# Altium footprint library Tranzistor.PcbLib: 240 footprints (part 14 of 15)
Each footprint in its own frame and in the unit in brackets; x right, y up, seen from the top. Pads: shape width x height; smd on the part's side, far side on the other; paste and mask are expansions set on the pad; w line width, h text height; cw(c..) or ccw(c..) is an arc to the next point about the centre after c.
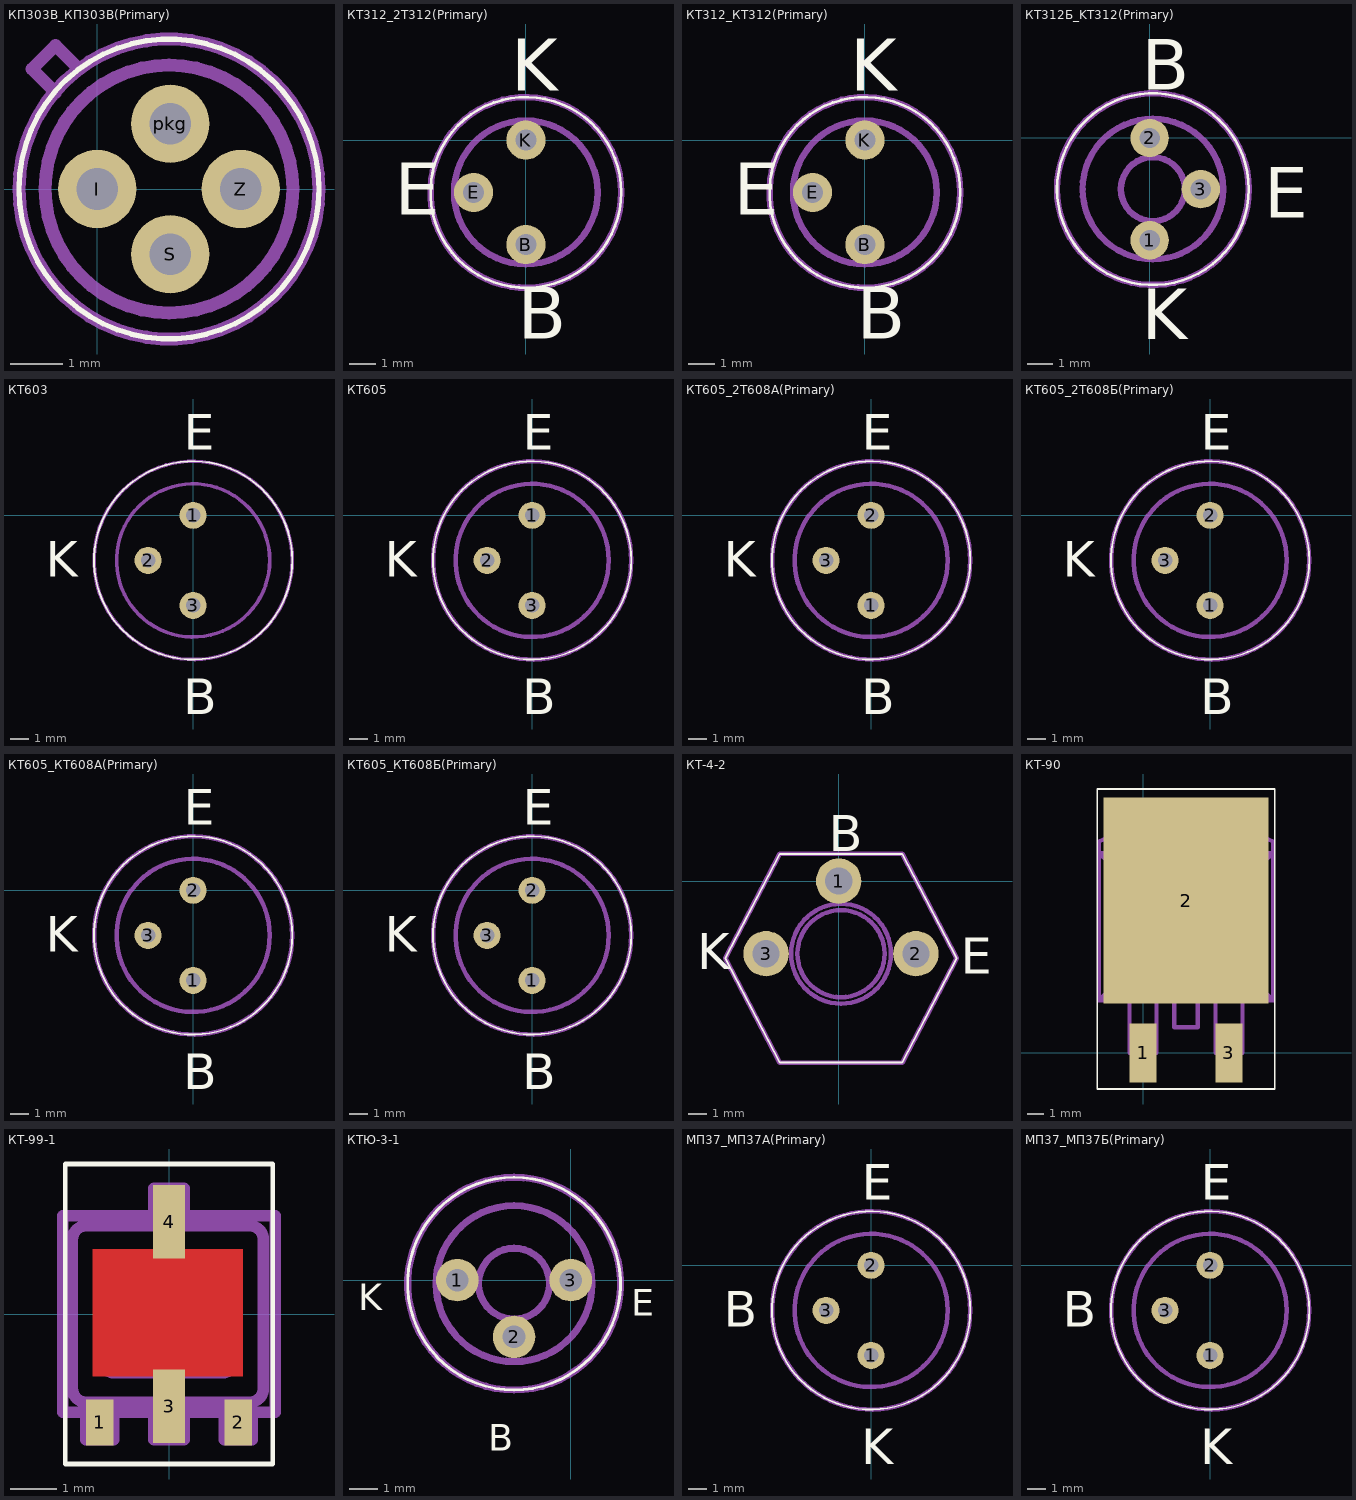
[diagram p13: the footprints below, top view; thin cyan lines are the x and y axes]

## КП303В_КП303В(Primary) [mm]
pads (4):
  round 1.5 hole 0.8: I(0,0) pkg(1.4,1.25) S(1.4,-1.25) Z(2.75,0)
Top Overlay:
  lines w0.1: -1.5,0 cw(c1.375,0) 4.25,0 cw(c1.375,0) -1.5,0
Mechanical 1:
  lines w0.25: -0.8,1.85 -1.25,2.3 -0.8,2.75 -0.35,2.3 ; -1.5,0 cw(c1.375,0) 4.25,0 cw(c1.375,0) -1.5,0 ; -1,0 cw(c1.375,0) 3.75,0 cw(c1.375,0) -1,0

## КТ312_2Т312(Primary) [mm]
pads (3):
  round 1.5 hole 0.8: B(0,-4) E(-2,-2) K(0,0)
Top Overlay:
  circle w0.1: c0,-2 r3.65
  text "K" at -0.558,1.887 h1.98
  text "B" at -0.308,-7.612 h1.98
  text "E" at -5.017,-2.863 h1.98
Mechanical 1:
  circle w0.25: c0,-2 r3.65
  circle w0.25: c0,-2 r2.75

## КТ312_КТ312(Primary) [mm]
pads (3):
  round 1.5 hole 0.8: B(0,-4) E(-2,-2) K(0,0)
Top Overlay:
  circle w0.1: c0,-2 r3.65
  text "K" at -0.558,1.887 h1.98
  text "B" at -0.308,-7.612 h1.98
  text "E" at -5.017,-2.863 h1.98
Mechanical 1:
  circle w0.25: c0,-2 r3.65
  circle w0.25: c0,-2 r2.75

## КТ312Б_KT312(Primary) [mm]
pads (3):
  round 1.5 hole 0.8: 1(0,-4) 2(0,0) 3(2,-2)
Top Overlay:
  lines w0.1: -3.625,-2 ccw(c0.125,-2) 3.875,-2 ccw(c0.125,-2) -3.625,-2
  text "B" at -0.308,1.887 h1.98
  text "K" at -0.308,-7.863 h1.98
  text "E" at 4.483,-3.113 h1.98
Mechanical 1:
  lines w0.25: -3.625,-2 ccw(c0.125,-2) 3.875,-2 ccw(c0.125,-2) -3.625,-2 ; -2.625,-2 ccw(c0.125,-2) 2.875,-2 ccw(c0.125,-2) -2.625,-2 ; -1.125,-2 ccw(c0.125,-2) 1.375,-2 ccw(c0.125,-2) -1.125,-2

## КТ603 [mm]
pads (3):
  round 1.5 hole 0.8: 1(0,0) 2(-2.5,-2.5) 3(0,-5)
Top Overlay:
  circle w0.1: c0,-2.5 r5.5
  text "E" at -0.517,3.638 h1.98
  text "B" at -0.558,-11.023 h1.98
  text "K" at -8.178,-3.403 h1.98
Mechanical 1:
  circle w0.2: c0,-2.5 r4.25
  circle w0.2: c0,-2.5 r5.5
  text "E" at -0.517,3.638 h1.98
  text "B" at -0.558,-11.023 h1.98
  text "K" at -8.178,-3.403 h1.98

## КТ605 [mm]
pads (3):
  round 1.5 hole 0.8: 1(0,0) 2(-2.5,-2.5) 3(0,-5)
Top Overlay:
  circle w0.1: c0,-2.5 r5.5
  text "E" at -0.517,3.638 h1.98
  text "B" at -0.558,-11.023 h1.98
  text "K" at -8.178,-3.403 h1.98
Mechanical 1:
  circle w0.25: c0,-2.5 r4.25
  circle w0.25: c0,-2.5 r5.5
  text "E" at -0.517,3.638 h1.98
  text "B" at -0.558,-11.023 h1.98
  text "K" at -8.178,-3.403 h1.98

## КТ605_2Т608А(Primary) [mm]
pads (3):
  round 1.5 hole 0.8: 1(0,-5) 2(0,0) 3(-2.5,-2.5)
Top Overlay:
  circle w0.1: c0,-2.5 r5.5
  text "E" at -0.517,3.638 h1.98
  text "B" at -0.558,-11.023 h1.98
  text "K" at -8.178,-3.403 h1.98
Mechanical 1:
  circle w0.25: c0,-2.5 r4.25
  circle w0.25: c0,-2.5 r5.5
  text "E" at -0.517,3.638 h1.98
  text "B" at -0.558,-11.023 h1.98
  text "K" at -8.178,-3.403 h1.98

## КТ605_2Т608Б(Primary) [mm]
pads (3):
  round 1.5 hole 0.8: 1(0,-5) 2(0,0) 3(-2.5,-2.5)
Top Overlay:
  circle w0.1: c0,-2.5 r5.5
  text "E" at -0.517,3.638 h1.98
  text "B" at -0.558,-11.023 h1.98
  text "K" at -8.178,-3.403 h1.98
Mechanical 1:
  circle w0.25: c0,-2.5 r4.25
  circle w0.25: c0,-2.5 r5.5
  text "E" at -0.517,3.638 h1.98
  text "B" at -0.558,-11.023 h1.98
  text "K" at -8.178,-3.403 h1.98

## КТ605_КТ608А(Primary) [mm]
pads (3):
  round 1.5 hole 0.8: 1(0,-5) 2(0,0) 3(-2.5,-2.5)
Top Overlay:
  circle w0.1: c0,-2.5 r5.5
  text "E" at -0.517,3.638 h1.98
  text "B" at -0.558,-11.023 h1.98
  text "K" at -8.178,-3.403 h1.98
Mechanical 1:
  circle w0.25: c0,-2.5 r4.25
  circle w0.25: c0,-2.5 r5.5
  text "E" at -0.517,3.638 h1.98
  text "B" at -0.558,-11.023 h1.98
  text "K" at -8.178,-3.403 h1.98

## КТ605_КТ608Б(Primary) [mm]
pads (3):
  round 1.5 hole 0.8: 1(0,-5) 2(0,0) 3(-2.5,-2.5)
Top Overlay:
  circle w0.1: c0,-2.5 r5.5
  text "E" at -0.517,3.638 h1.98
  text "B" at -0.558,-11.023 h1.98
  text "K" at -8.178,-3.403 h1.98
Mechanical 1:
  circle w0.25: c0,-2.5 r4.25
  circle w0.25: c0,-2.5 r5.5
  text "E" at -0.517,3.638 h1.98
  text "B" at -0.558,-11.023 h1.98
  text "K" at -8.178,-3.403 h1.98

## КТ-4-2 [mm]
pads (3):
  round 2.5 hole 1.5: 1(0,0) 2(4.25,-4) 3(-4,-4)
Top Overlay:
  lines w0.1: -6.25,-4.25 -3.25,1.5 3.5,1.5 6.5,-4.25 3.5,-10 -3.25,-10 -6.25,-4.25
  text "E" at 6.733,-5.112 h1.98
  text "B" at -0.558,1.637 h1.98
  text "K" at -7.808,-4.862 h1.98
Mechanical 1:
  lines w0.25: -6.25,-4.25 -3.25,1.5 3.5,1.5 6.5,-4.25 3.5,-10 -3.25,-10 -6.25,-4.25 ; -2.625,-4 cw(c0.125,-4) 2.875,-4 cw(c0.125,-4) -2.625,-4 ; -2.275,-4 cw(c0.125,-4) 2.525,-4 cw(c0.125,-4) -2.275,-4

## КТ-90 [mm]
pads (3):
  rect 1.6x3.5 smd: 1(0,0) 3(5.08,0)
  rect 9.75x12.2 smd: 2(2.54,9.017)
Top Overlay:
  lines w0.1: -2.71,-2.13 7.79,-2.13 7.79,15.62 -2.71,15.62 -2.71,-2.13
Mechanical 1:
  lines w0.25: -0.81,3.12 -0.81,0.02 0.79,0.02 0.79,3.12 ; -0.56,0.02 -0.56,-0.83 ; 0.54,0.02 0.54,-0.83 ; 1.84,3.12 1.84,1.52 2.54,1.52 3.24,1.52 3.24,3.12 ; 4.29,3.12 4.29,0.02 5.89,0.02 5.89,3.12 ; 4.54,0.02 4.54,-0.83 ; 5.64,0.02 5.64,-0.83 ; -2.61,3.12 7.69,3.12 ; -2.61,3.12 -2.61,11.82 ; -2.61,3.12 -2.11,3.62 ; -2.61,11.82 7.69,11.82 ; -2.61,11.82 -2.11,11.32 ; -2.61,11.82 -2.61,12.52 -1.01,13.22 6.09,13.22 7.69,12.52 7.69,11.82 ; -2.11,3.62 7.19,3.62 ; -2.11,3.62 -2.11,11.32 ; -2.11,11.32 7.19,11.32 ; -0.56,-0.83 -0.56,-1.48 0.54,-1.48 0.54,-0.83 ; -0.56,-0.83 0.54,-0.83 ; 4.54,-0.83 4.54,-1.48 5.64,-1.48 5.64,-0.83 ; 4.54,-0.83 5.64,-0.83 ; 7.19,3.62 7.19,11.32 ; 7.19,3.62 7.69,3.12 ; 7.19,11.32 7.69,11.82 ; 7.69,3.12 7.69,11.82

## КТ-99-1 [mm]
pads (4):
  rect 0.6x1 smd: 1(-1.5,-2.35) 2(1.5,-2.35)
  rect 0.7x1.6 smd: 3(0,-2) 4(0,2)
Top Layer:
  region: -1.65,-1.35 1.6,-1.35 1.6,1.4 -1.65,1.4
Top Overlay:
  lines w0.1: -2.25,-3.25 2.25,-3.25 2.25,3.25 -2.25,3.25 -2.25,-3.25
Top Solder:
  region: -1.8,-1.45 1.7,-1.45 1.7,1.5 -1.8,1.5
Mechanical 1:
  lines w0.25: -1.8,-2.125 -1.8,-2.725 -1.5,-2.725 -1.2,-2.725 -1.2,-2.125 ; -0.325,-2.125 -0.325,-2.725 0,-2.725 0.325,-2.725 0.325,-2.125 ; -0.325,2.125 -0.325,2.725 0,2.725 0.325,2.725 0.325,2.125 ; 1.2,-2.125 1.2,-2.725 1.5,-2.725 1.8,-2.725 1.8,-2.125 ; -2.3,-2.125 2.3,-2.125 2.3,2.125 -2.3,2.125 -2.3,-2.125 ; -2.093,-1.613 ccw(c-1.793,-1.613) -1.793,-1.913 1.747,-1.913 ccw(c1.747,-1.613) 2.047,-1.613 2.047,1.613 ccw(c1.747,1.613) 1.747,1.913 -1.793,1.913 ccw(c-1.793,1.613) -2.093,1.613 -2.093,-1.613 ; -1.395,-1.075 ccw(c-1.195,-1.075) -1.195,-1.275 1.165,-1.275 ccw(c1.165,-1.075) 1.365,-1.075 1.365,1.075 ccw(c1.165,1.075) 1.165,1.275 -1.195,1.275 ccw(c-1.195,1.075) -1.395,1.075 -1.395,-1.075 ; -1.279,-0.969 ccw(c-1.079,-0.969) -1.079,-1.169 1.051,-1.169 ccw(c1.051,-0.969) 1.251,-0.969 1.251,0.969 ccw(c1.051,0.969) 1.051,1.169 -1.079,1.169 ccw(c-1.079,0.969) -1.279,0.969 -1.279,-0.969

## КТЮ-3-1 [mm]
pads (3):
  round 1.5 hole 0.8: 1(-4,0) 2(-2,-2) 3(0,0)
Top Overlay:
  lines w0.1: -2,-3.875 cw(c-2,-0.125) -2,3.625 cw(c-2,-0.125) -2,-3.875
  text "B" at -2.911,-6.013 h0.94
  text "E" at 2.136,-1.262 h0.94
  text "K" at -7.501,-1.062 h0.94
Mechanical 1:
  lines w0.25: -2,-3.875 cw(c-2,-0.125) -2,3.625 cw(c-2,-0.125) -2,-3.875 ; -2,-2.875 cw(c-2,-0.125) -2,2.625 cw(c-2,-0.125) -2,-2.875 ; -2,-1.375 cw(c-2,-0.125) -2,1.125 cw(c-2,-0.125) -2,-1.375

## МП37_МП37А(Primary) [mm]
pads (3):
  round 1.5 hole 0.8: 1(0,-5) 2(0,0) 3(-2.5,-2.5)
Top Overlay:
  circle w0.1: c0,-2.5 r5.5
  text "E" at -0.517,3.638 h1.98
  text "K" at -0.558,-11.023 h1.98
  text "B" at -8.178,-3.403 h1.98
Mechanical 1:
  circle w0.25: c0,-2.5 r4.25
  circle w0.25: c0,-2.5 r5.5
  text "E" at -0.517,3.638 h1.98
  text "K" at -0.558,-11.023 h1.98
  text "B" at -8.178,-3.403 h1.98

## МП37_МП37Б(Primary) [mm]
pads (3):
  round 1.5 hole 0.8: 1(0,-5) 2(0,0) 3(-2.5,-2.5)
Top Overlay:
  circle w0.1: c0,-2.5 r5.5
  text "E" at -0.517,3.638 h1.98
  text "K" at -0.558,-11.023 h1.98
  text "B" at -8.178,-3.403 h1.98
Mechanical 1:
  circle w0.25: c0,-2.5 r4.25
  circle w0.25: c0,-2.5 r5.5
  text "E" at -0.517,3.638 h1.98
  text "K" at -0.558,-11.023 h1.98
  text "B" at -8.178,-3.403 h1.98